# Altium schematic symbol library Term,Block,8Pin,Phoenix,2.5mm,SMD.Schlib: 1 symbol
Pins are listed as number, name and electrical type; pins without a type are passive.

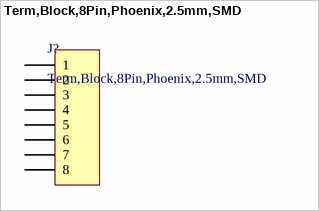
[diagram p0: symbol Term,Block,8Pin,Phoenix,2.5mm,SMD]

## Term,Block,8Pin,Phoenix,2.5mm,SMD
designator J?
TERM BLK 8POS SIDE ENT 2.5MM SMD
pins: 1, 2, 3, 4, 5, 6, 7, 8